# Altium footprint library vishay_wsl2726.PcbLib: 1 footprints
Each footprint in its own frame and in the unit in brackets; x right, y up, seen from the top. Pads: shape width x height; smd on the part's side, far side on the other; paste and mask are expansions set on the pad; w line width, h text height; cw(c..) or ccw(c..) is an arc to the next point about the centre after c.
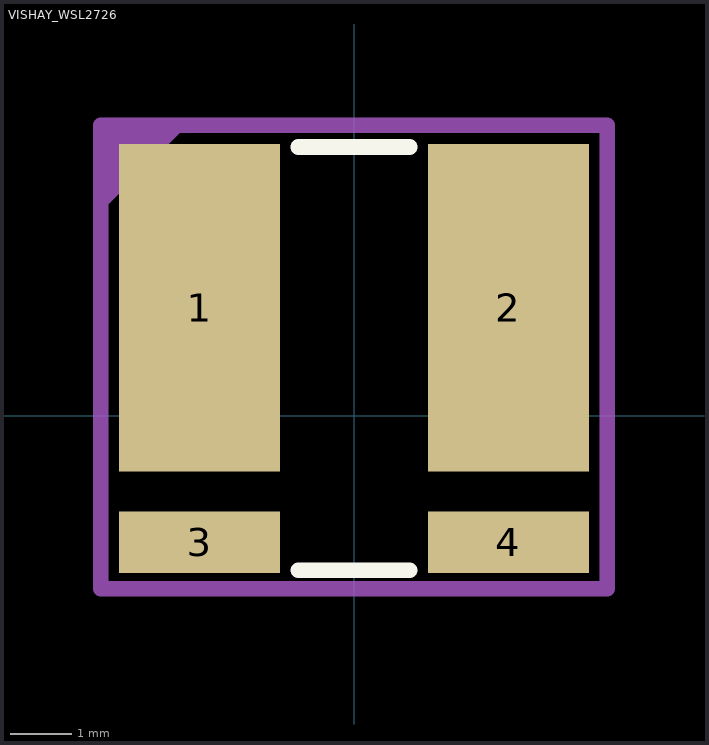
[diagram p0: the footprint, top view; thin cyan lines are the x and y axes]

## VISHAY_WSL2726 [mm]
height 2.95
pads (4):
  rect 2.6x5.3 smd: 1(-2.5,1.75) 2(2.5,1.75)
  rect 2.6x1 smd: 3(-2.5,-2.05) 4(2.5,-2.05)
Top Overlay:
  lines w0.254: -0.9,-2.5 0.9,-2.5 ; -0.9,4.35 0.9,4.35
Top Courtyard:
  region: -4.1,4.7 -2.7,4.7 -4.1,3.3
  lines w0.25: -4.1,-2.8 -4.1,4.7 4.1,4.7 4.1,-2.8 -4.1,-2.8
Top Designator:
  text ".Designator" at -2.2,-0.367 h1
3D body "wsl2726_500u.STEP": height 2.95, standoff 0, extent -3.45,-2.4 3.45,4.2